# EAGLE library part PCA9555 (library digital)
pca9555: 16-bit I2C and SMBus I/O expander (Texas Instruments) 5V, 400kHz
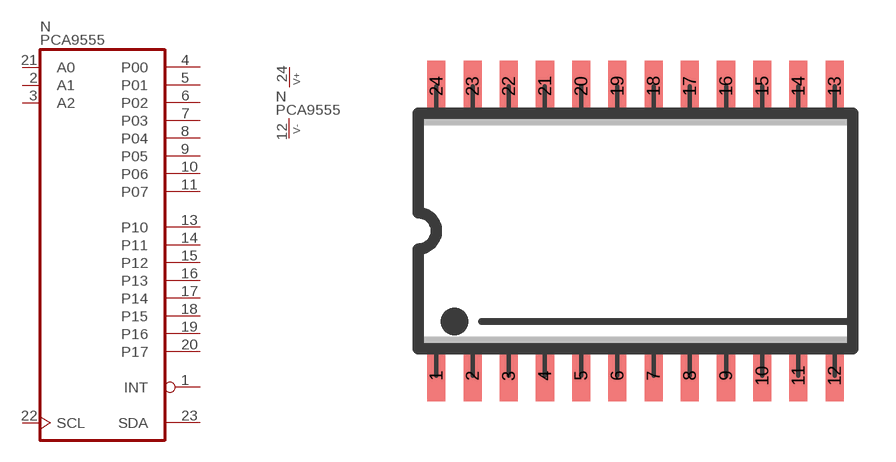
[diagram p57: symbol with the pads of SO24W; footprint SO24W]

Designator prefix N; gates  =PCA9555 P=V+-

## PCA9555  [SO24W]
1   :INT  out
2   :A1  in
3   :A2  in
4   :P00  out
5   :P01  out
6   :P02  out
7   :P03  out
8   :P04  out
9   :P05  out
10   :P06  out
11   :P07  out
12  P:V-  pwr
13   :P10  out
14   :P11  out
15   :P12  out
16   :P13  out
17   :P14  out
18   :P15  out
19   :P16  out
20   :P17  out
21   :A0  in
22   :SCL  in
23   :SDA
24  P:V+  pwr

## Footprint SO24W (pad centres in mm)
SO-24, SMD wide SOIC IC package, 24 pins, wide
smd 0.635 x 1.778: 1 -6.985,-5.08; 2 -5.715,-5.08; 3 -4.445,-5.08; 4 -3.175,-5.08; 5 -1.905,-5.08; 6 -0.635,-5.08; 7 0.635,-5.08; 8 1.905,-5.08; 9 3.175,-5.08; 10 4.445,-5.08; 11 5.715,-5.08; 12 6.985,-5.08; 13 6.985,5.08; 14 5.715,5.08; 15 4.445,5.08; 16 3.175,5.08; 17 1.905,5.08; 18 0.635,5.08; 19 -0.635,5.08; 20 -1.905,5.08; 21 -3.175,5.08; 22 -4.445,5.08; 23 -5.715,5.08; 24 -6.985,5.08